# Altium footprint library Opamps.PCBLIB: 4 footprints
Each footprint in its own frame and in the unit in brackets; x right, y up, seen from the top. Pads: shape width x height; smd on the part's side, far side on the other; paste and mask are expansions set on the pad; w line width, h text height; cw(c..) or ccw(c..) is an arc to the next point about the centre after c.
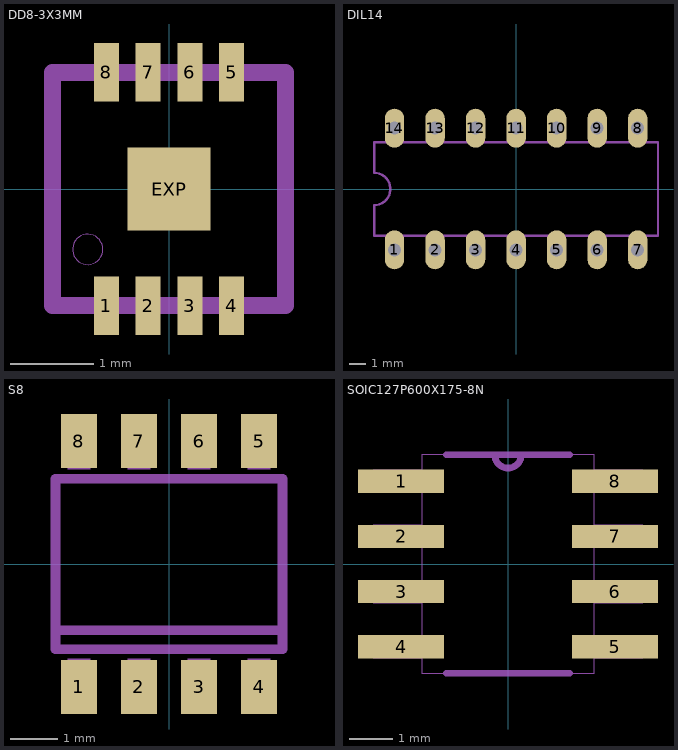
[diagram p0: the footprints below, top view; thin cyan lines are the x and y axes]

## DD8-3X3MM [mm]
pads (9):
  rect 0.3x0.7 smd paste-0.35 mask-0.35: 1(-0.75,-1.4) 2(-0.25,-1.4) 3(0.25,-1.4) 4(0.75,-1.4) 5(0.75,1.4) 6(0.25,1.4) 7(-0.25,1.4) 8(-0.75,1.4)
  rect 1x1 smd paste-0.5 mask-0.5: EXP(0,0)
Top Layer:
  region: 0,0 0.254,0 0.254,0.254 0,0.254
Top Paste:
  rectangle: -0.875,-1.725 -0.625,-1.075
  rectangle: -0.375,-1.725 -0.125,-1.075
  rectangle: 0.125,-1.725 0.375,-1.075
  rectangle: 0.625,-1.725 0.875,-1.075
  region: 0.875,1.725 0.625,1.725 0.625,1.075 0.875,1.075
  region: 0.375,1.725 0.125,1.725 0.125,1.075 0.375,1.075
  region: -0.125,1.725 -0.375,1.725 -0.375,1.075 -0.125,1.075
  region: -0.625,1.725 -0.875,1.725 -0.875,1.075 -0.625,1.075
  region: 0,0 0.254,0 0.254,0.254 0,0.254
Top Solder:
  rectangle: -0.925,-1.8 -0.575,-1
  rectangle: -0.425,-1.8 -0.075,-1
  rectangle: 0.075,-1.8 0.425,-1
  rectangle: 0.575,-1.8 0.925,-1
  region: 0.925,1.8 0.575,1.8 0.575,1 0.925,1
  region: 0.425,1.8 0.075,1.8 0.075,1 0.425,1
  region: -0.075,1.8 -0.425,1.8 -0.425,1 -0.075,1
  region: -0.575,1.8 -0.925,1.8 -0.925,1 -0.575,1
  region: 0,0 0.254,0 0.254,0.254 0,0.254
Mechanical 2:
  circle w0: c-0.975,-0.725 r0.182
  lines w0.203: -1.4,-1.4 -1.4,1.4 ; 1.4,-1.4 1.4,1.4
Mechanical 18:
  lines w0.203: -1.4,-1.4 -1.4,1.4 1.4,1.4 1.4,-1.4 -1.4,-1.4

## DIL14 [mil]
pads (14):
  oval 48x96 hole 32: 1(-300,-150) 2(-200,-150) 3(-100,-150) 4(0,-150) 5(100,-150) 6(200,-150) 7(300,-150) 8(300,150) 9(200,150) 10(100,150) 11(0,150) 12(-100,150) 13(-200,150) 14(-300,150)
Mechanical 2:
  lines w6: -350,-115 350,-115 350,115 -350,115 -350,40 cw(c-350,0) -350,-40 -350,-115

## S8 [mil]
pads (8):
  rect 30x45 smd: 1(-75,-102.36) 2(-25,-102.36) 3(25,-102.36) 4(75,-102.36) 5(75,102.36) 6(25,102.36) 7(-25,102.36) 8(-75,102.36)
Mechanical 2:
  lines w8: -94.49,-55.12 -94.49,-70.87 94.49,-70.87 94.49,-55.12 ; -94.49,-55.12 -94.49,70.87 94.49,70.87 94.49,-55.12 ; -94.49,-55.12 94.49,-55.12
Mechanical 18:
  rectangle: -84.65,-122.05 -65.35,-78.74
  rectangle: -34.65,-122.05 -15.35,-78.74
  rectangle: 15.35,-122.05 34.65,-78.74
  rectangle: 65.35,-122.05 84.65,-78.74
  rectangle: 65.35,78.74 84.65,122.05
  rectangle: 15.35,78.74 34.65,122.05
  rectangle: -34.65,78.74 -15.35,122.05
  rectangle: -84.65,78.74 -65.35,122.05

## SOIC127P600X175-8N [mil]
pads (8):
  rect 78x21 smd: 1(-97,75) 2(-97,25) 3(-97,-25) 4(-97,-75) 5(97,-75) 6(97,-25) 7(97,25) 8(97,75)
Mechanical 2:
  lines w6: -56,-99 56,-99 ; -56,99 -12,99 ; 56,99 12,99 ; -12,99 12,99 ; -12,99 ccw(c0,99) 12,99
Mechanical 18:
  lines w0: -12,99 12,99 ; -12,99 -78,99 -78,-99 78,-99 78,99 12,99 ; -12,99 ccw(c0,99) 12,99 ; -122,-85 -122,-65 -78,-65 -78,-85 -122,-85 ; -122,-35 -122,-15 -78,-15 -78,-35 -122,-35 ; -122,15 -122,35 -78,35 -78,15 -122,15 ; -122,65 -122,85 -78,85 -78,65 -122,65 ; 78,-85 78,-65 122,-65 122,-85 78,-85 ; 78,-35 78,-15 122,-15 122,-35 78,-35 ; 78,15 78,35 122,35 122,15 78,15 ; 78,65 78,85 122,85 122,65 78,65